# EAGLE library part CRUMB128 (library chip45_EagleLib_090813)
Crumb128 V3.0 Powerfull OEM module for rapid application development based on Atmel's AVR ATmega128 processor.
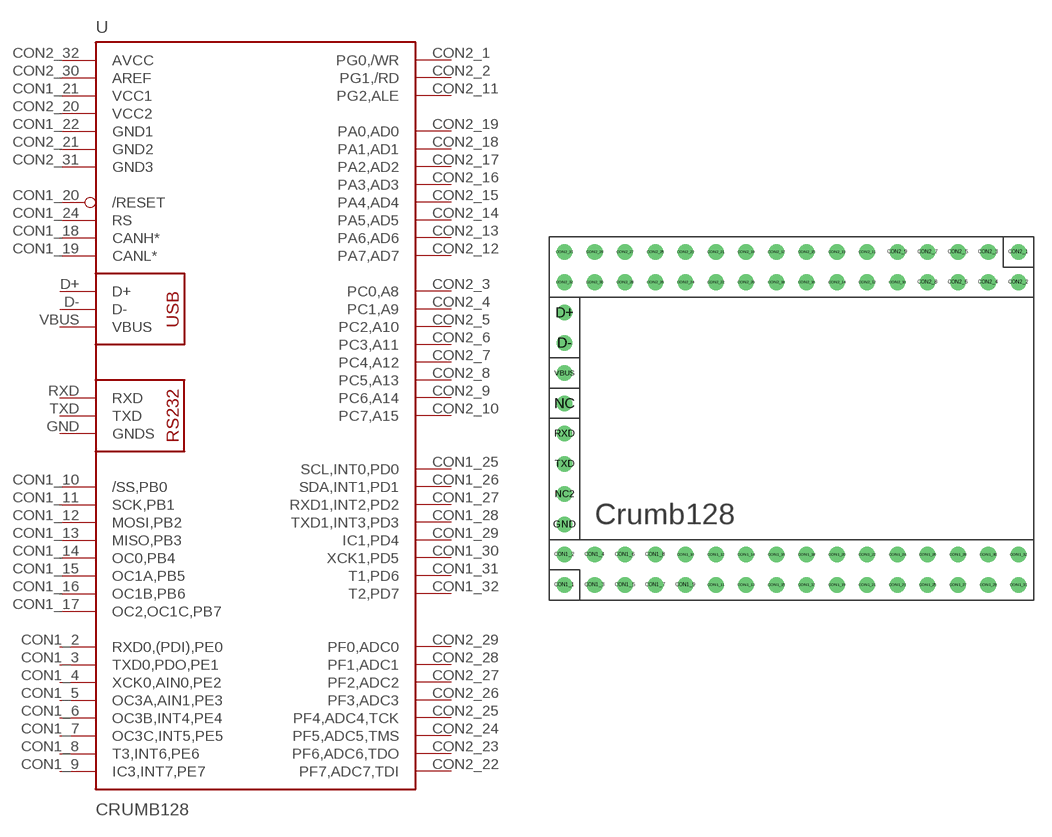
[diagram p0: symbol with the pads of CRUMB128; footprint CRUMB128]

Designator prefix -

## CRUMB128V3.0 (EEPROM: 4 kB; FLASH: 128 kB; PERIPHERALS: CP2102 USB-UART converter, MAX3221 RS232 transceiver; PROCESSOR: ATmega128; RAM: 4 kB SRAM), CRUMB128V3.0CAN (EEPROM: 4 kB; FLASH: 128 kB; PERIPHERALS: CP2102 USB-UART converter, MAX3221 RS232 transceiver, PCA82C251 CAN transceiver; PROCESSOR: AT90CAN128; RAM: 4 kB SRAM)  [CRUMB128]
CON1_2  RXD0,(PDI),PE0
CON1_3  TXD0,PDO,PE1
CON1_4  XCK0,AIN0,PE2
CON1_5  OC3A,AIN1,PE3
CON1_6  OC3B,INT4,PE4
CON1_7  OC3C,INT5,PE5
CON1_8  T3,INT6,PE6
CON1_9  IC3,INT7,PE7
CON1_10  /SS,PB0
CON1_11  SCK,PB1
CON1_12  MOSI,PB2
CON1_13  MISO,PB3
CON1_14  OC0,PB4
CON1_15  OC1A,PB5
CON1_16  OC1B,PB6
CON1_17  OC2,OC1C,PB7
CON1_18  CANH*
CON1_19  CANL*
CON1_20  /RESET
CON1_21  VCC1  pwr
CON1_22  GND1  pwr
CON1_24  RS
CON1_25  SCL,INT0,PD0
CON1_26  SDA,INT1,PD1
CON1_27  RXD1,INT2,PD2
CON1_28  TXD1,INT3,PD3
CON1_29  IC1,PD4
CON1_30  XCK1,PD5
CON1_31  T1,PD6
CON1_32  T2,PD7
CON2_1  PG0,/WR
CON2_2  PG1,/RD
CON2_3  PC0,A8
CON2_4  PC1,A9
CON2_5  PC2,A10
CON2_6  PC3,A11
CON2_7  PC4,A12
CON2_8  PC5,A13
CON2_9  PC6,A14
CON2_10  PC7,A15
CON2_11  PG2,ALE
CON2_12  PA7,AD7
CON2_13  PA6,AD6
CON2_14  PA5,AD5
CON2_15  PA4,AD4
CON2_16  PA3,AD3
CON2_17  PA2,AD2
CON2_18  PA1,AD1
CON2_19  PA0,AD0
CON2_20  VCC2  pwr
CON2_21  GND2  pwr
CON2_22  PF7,ADC7,TDI
CON2_23  PF6,ADC6,TDO
CON2_24  PF5,ADC5,TMS
CON2_25  PF4,ADC4,TCK
CON2_26  PF3,ADC3
CON2_27  PF2,ADC2
CON2_28  PF1,ADC1
CON2_29  PF0,ADC0
CON2_30  AREF  in
CON2_31  GND3  pwr
CON2_32  AVCC  nc
D+  D+
D-  D-
GND  GNDS
RXD  RXD  in
TXD  TXD  out
VBUS  VBUS

## Footprint CRUMB128 (pad centres in mm)
Crumb128 V3.0 ATmega128 OEM microcontroller module with CP2102 USB-UART converter, RS232 transceiver, 32768Hz watch crystal, HC49 XTAL crystal, ISP header and all controller signals on expansion headers. CAN controller and transceiver as option.
drill 0.8 round: CON1_1 -19.05,-13.97; CON1_2 -19.05,-11.43; CON1_3 -16.51,-13.97; CON1_4 -16.51,-11.43; CON1_5 -13.97,-13.97; CON1_6 -13.97,-11.43; CON1_7 -11.43,-13.97; CON1_8 -11.43,-11.43; CON1_9 -8.89,-13.97; CON1_10 -8.89,-11.43; CON1_11 -6.35,-13.97; CON1_12 -6.35,-11.43; CON1_13 -3.81,-13.97; CON1_14 -3.81,-11.43; CON1_15 -1.27,-13.97; CON1_16 -1.27,-11.43; CON1_17 1.27,-13.97; CON1_18 1.27,-11.43; CON1_19 3.81,-13.97; CON1_20 3.81,-11.43; CON1_21 6.35,-13.97; CON1_22 6.35,-11.43; CON1_23 8.89,-13.97; CON1_24 8.89,-11.43; CON1_25 11.43,-13.97; CON1_26 11.43,-11.43; CON1_27 13.97,-13.97; CON1_28 13.97,-11.43; CON1_29 16.51,-13.97; CON1_30 16.51,-11.43; CON1_31 19.05,-13.97; CON1_32 19.05,-11.43; CON2_1 19.05,13.97; CON2_2 19.05,11.43; CON2_3 16.51,13.97; CON2_4 16.51,11.43; CON2_5 13.97,13.97; CON2_6 13.97,11.43; CON2_7 11.43,13.97; CON2_8 11.43,11.43; CON2_9 8.89,13.97; CON2_10 8.89,11.43; CON2_11 6.35,13.97; CON2_12 6.35,11.43; CON2_13 3.81,13.97; CON2_14 3.81,11.43; CON2_15 1.27,13.97; CON2_16 1.27,11.43; CON2_17 -1.27,13.97; CON2_18 -1.27,11.43; CON2_19 -3.81,13.97; CON2_20 -3.81,11.43; CON2_21 -6.35,13.97; CON2_22 -6.35,11.43; CON2_23 -8.89,13.97; CON2_24 -8.89,11.43; CON2_25 -11.43,13.97; CON2_26 -11.43,11.43; CON2_27 -13.97,13.97; CON2_28 -13.97,11.43; CON2_29 -16.51,13.97; CON2_30 -16.51,11.43; CON2_31 -19.05,13.97; CON2_32 -19.05,11.43; D+ -19.05,8.89; D- -19.05,6.35; GND -19.05,-8.89; NC -19.05,1.27; NC2 -19.05,-6.35; RXD -19.05,-1.27; TXD -19.05,-3.81; VBUS -19.05,3.81